# Altium schematic symbol library Boost_lib.SchLib: 4 symbols
Pins are listed as number, name and electrical type; pins without a type are passive.

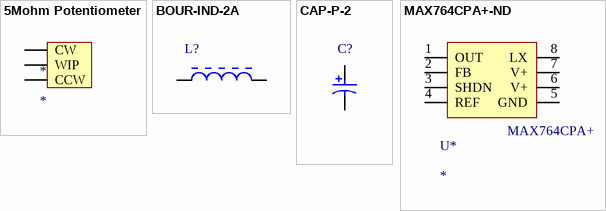
[diagram p0: symbols 5Mohm Potentiometer to MAX764CPA+-ND]

## 5Mohm Potentiometer
designator *
3296W-1-505LF; Manufacturer PN: 3296W-1-505LF
footprint 5k_pot (3296W-1-505LF)
pins: 1 CW, 2 WIP, 3 CCW

## BOUR-IND-2A
designator L?
Manufacturer PN: SRR1208-272KLTR-ND; Inductance: 2.7mH
footprint SRR1208 Inductor
pins: 1, 2

## CAP-P-2
designator C?
footprint PNSC-EEE-1VA221UP_M (CAPAE, 2-Leads, Body 8.5x8.5mm, IPC Low Density)
pins: 1, 2

## MAX764CPA+-ND
designator U*  Manufacturer PN: MAX764CPA+
IC REG BUCK BST INV ADJ/-5V 8DIP; HTML: https://www.digikey.ca/product-detail/en/maxim-integrated/MAX764CPA/MAX764CPA-ND/1512331
footprint PDIP300-P8 (8-Pin Plastic Dual In-Line Package (PDIP))
pins: 1 OUT, 2 FB, 3 SHDN, 4 REF, 5 GND, 6 V+, 7 V+, 8 LX